# EAGLE library part TLV2464 (library EricB_custom)
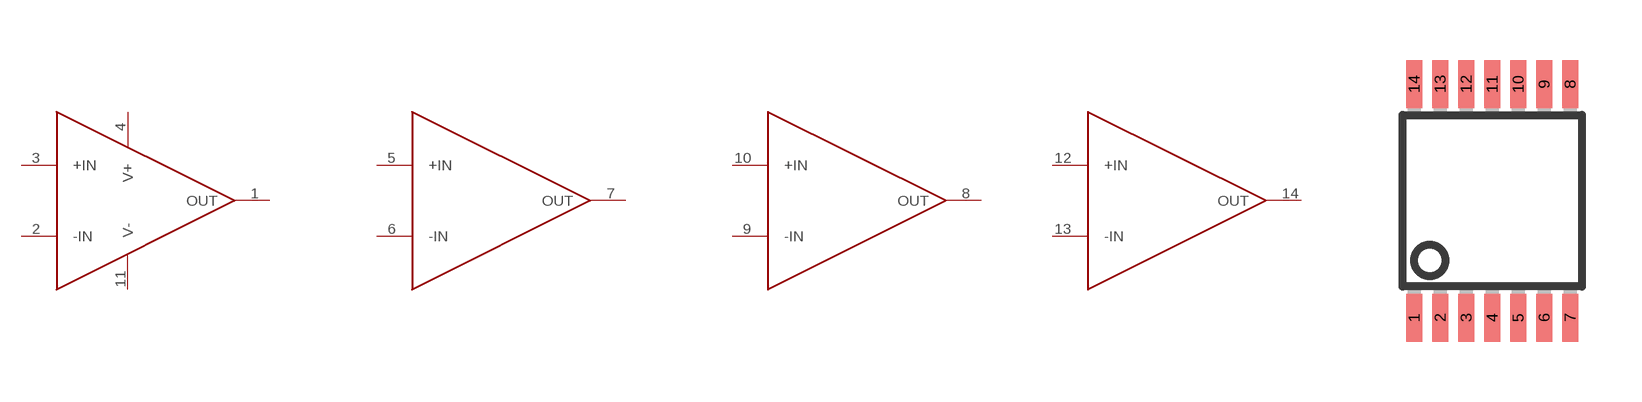
[diagram p8: symbol with the pads of SSOP14; footprint SSOP14]

Designator prefix -; gates G$1=OPAMP+- G$2=OPAMP G$3=OPAMP G$4=OPAMP

## TLV2464  [SSOP14]
1  G$1:OUT
2  G$1:-IN
3  G$1:+IN
4  G$1:V+
5  G$2:+IN
6  G$2:-IN
7  G$2:OUT
8  G$3:OUT
9  G$3:-IN
10  G$3:+IN
11  G$1:V-
12  G$4:+IN
13  G$4:-IN
14  G$4:OUT

## Footprint SSOP14 (pad centres in mm)
Small Shrink Outline Package
smd 0.4 x 1.2: 1 -1.95,-2.925; 2 -1.3,-2.925; 3 -0.65,-2.925; 4 0,-2.925; 5 0.65,-2.925; 6 1.3,-2.925; 7 1.95,-2.925; 8 1.95,2.925; 9 1.3,2.925; 10 0.65,2.925; 11 0,2.925; 12 -0.65,2.925; 13 -1.3,2.925; 14 -1.95,2.925